# EAGLE library part LDCFILT2 (library divers)
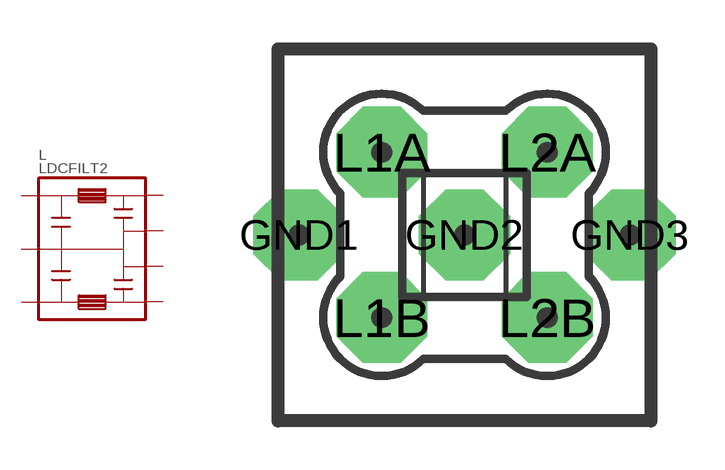
[diagram p7: symbol with the pads of LDCFILT2; footprint LDCFILT2]

Designator prefix L

## LDCFILT2  [LDCFILT2]
GND1  GND
GND2  GND
GND3  GND
L1A  L1A
L1B  L1B
L2A  L2A
L2B  L2B

## Footprint LDCFILT2 (pad centres in mm)
drill 1.295 pad 2.794 octagon: GND1 -5.08,0; GND2 0,0; GND3 5.08,0; L1A -2.54,2.54; L1B -2.54,-2.54; L2A 2.54,2.54; L2B 2.54,-2.54